# Altium schematic symbol library Diode_Bridge.SchLib: 205 symbols (part 1 of 2)
Pins are listed as number, name and electrical type; pins without a type are passive.

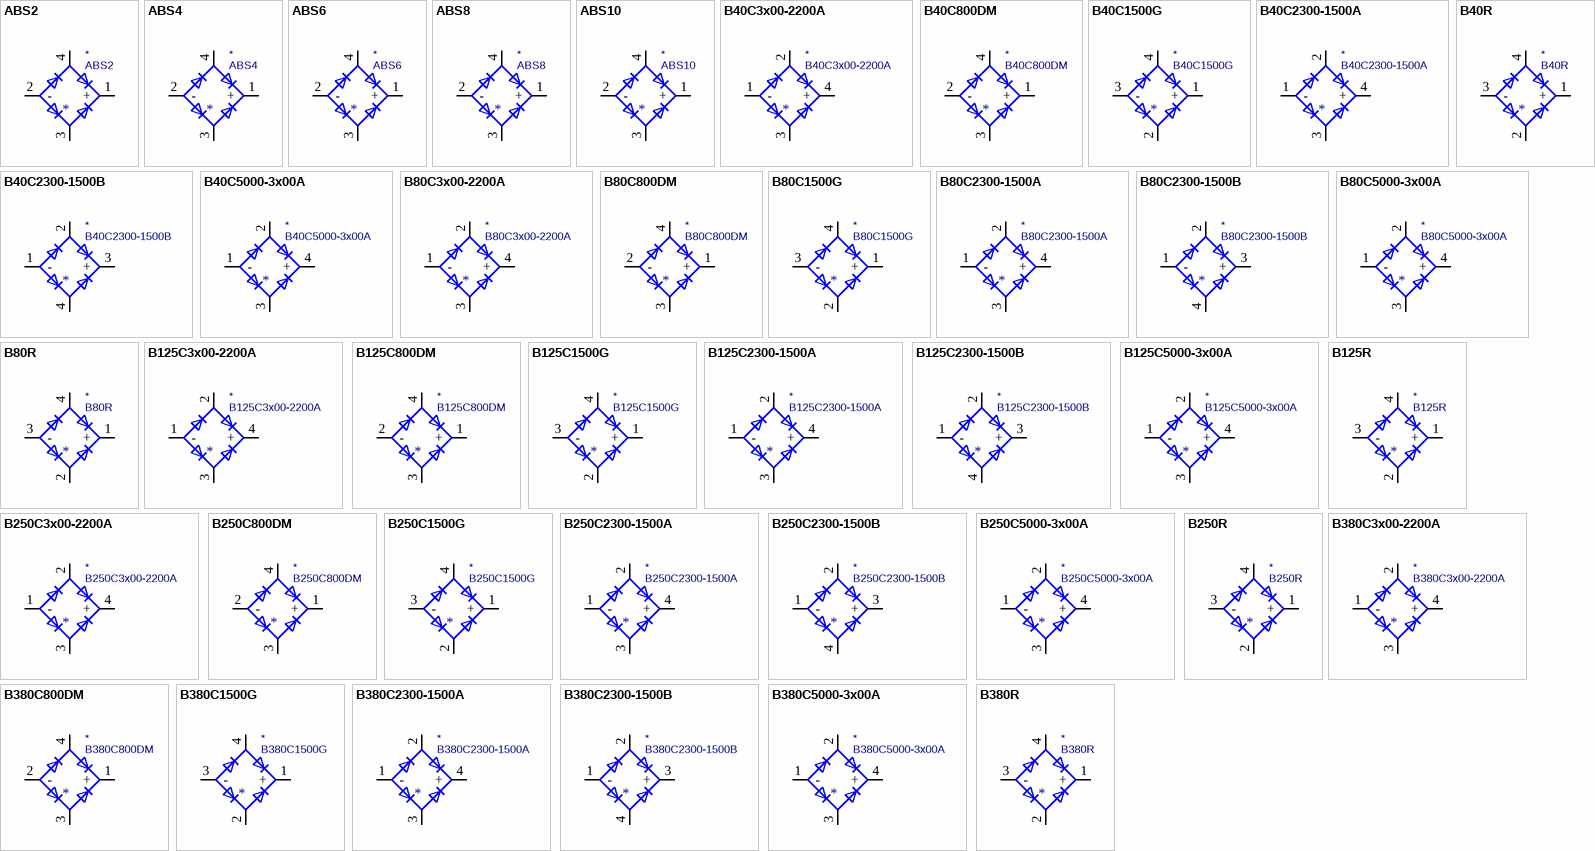
[diagram p0: symbols ABS2 to B380R]

## ABS2
designator *  value ABS2
ki_keywords: rectifier acdc; ki_description: Miniature Glass Passivated Single-Phase Surface Mount Bridge Rectifiers, 140V Vrms, 0.8A If, ABS SMD package; ki_fp_filters: Diode*Bridge*Diotec*ABS*; Footprint: Diode_SMD:Diode_Bridge_Diotec_ABS; Supplier: https://diotec.com/tl_files/diotec/files/pdf/datasheets/abs2.pdf
footprint Diode_Bridge_Diotec_ABS
pins: 1 +, 2 -, 3, 4

## ABS4
designator *  value ABS4
ki_keywords: rectifier acdc; ki_description: Miniature Glass Passivated Single-Phase Surface Mount Bridge Rectifiers, 280V Vrms, 0.8A If, ABS SMD package; ki_fp_filters: Diode*Bridge*Diotec*ABS*; Footprint: Diode_SMD:Diode_Bridge_Diotec_ABS; Supplier: https://diotec.com/tl_files/diotec/files/pdf/datasheets/abs2.pdf
footprint Diode_Bridge_Diotec_ABS
pins: 1 +, 2 -, 3, 4

## ABS6
designator *  value ABS6
ki_keywords: rectifier acdc; ki_description: Miniature Glass Passivated Single-Phase Surface Mount Bridge Rectifiers, 420V Vrms, 0.8A If, ABS SMD package; ki_fp_filters: Diode*Bridge*Diotec*ABS*; Footprint: Diode_SMD:Diode_Bridge_Diotec_ABS; Supplier: https://diotec.com/tl_files/diotec/files/pdf/datasheets/abs2.pdf
footprint Diode_Bridge_Diotec_ABS
pins: 1 +, 2 -, 3, 4

## ABS8
designator *  value ABS8
ki_keywords: rectifier acdc; ki_description: Miniature Glass Passivated Single-Phase Surface Mount Bridge Rectifiers, 450V Vrms, 0.8A If, ABS SMD package; ki_fp_filters: Diode*Bridge*Diotec*ABS*; Footprint: Diode_SMD:Diode_Bridge_Diotec_ABS; Supplier: https://diotec.com/tl_files/diotec/files/pdf/datasheets/abs2.pdf
footprint Diode_Bridge_Diotec_ABS
pins: 1 +, 2 -, 3, 4

## ABS10
designator *  value ABS10
ki_keywords: rectifier acdc; ki_description: Miniature Glass Passivated Single-Phase Surface Mount Bridge Rectifiers, 700V Vrms, 0.8A If, ABS SMD package; ki_fp_filters: Diode*Bridge*Diotec*ABS*; Footprint: Diode_SMD:Diode_Bridge_Diotec_ABS; Supplier: https://diotec.com/tl_files/diotec/files/pdf/datasheets/abs2.pdf
footprint Diode_Bridge_Diotec_ABS
pins: 1 +, 2 -, 3, 4

## B40C3x00-2200A
designator *  value B40C3x00-2200A
ki_keywords: rectifier acdc; ki_description: Silicon Bridge Rectifier, 40V Vrms, 2.2A If, pins=-AA+, SIL-package; ki_fp_filters: D*Bridge*32.0x5.6x17.0mm*P10.0mm*P7.5mm*; Footprint: Diode_THT:Diode_Bridge_32.0x5.6x17.0mm_P10.0mm_P7.5mm; Supplier: https://diotec.com/tl_files/diotec/files/pdf/datasheets/b40c3700
footprint Diode_Bridge_32.0x5.6x17.0mm_P10.0mm_P7.5mm
pins: 1 -, 2, 3, 4 +

## B40C800DM
designator *  value B40C800DM
ki_keywords: rectifier acdc; ki_description: Glass Passivated Single-Phase Bridge Rectifier, 40V Vrms, 0.8A If, DIP-4; ki_fp_filters: Diode*Bridge*DIP*W7.62mm*P5.08mm*; Footprint: Diode_THT:Diode_Bridge_DIP-4_W7.62mm_P5.08mm; Supplier: https://www.vishay.com/docs/88533/800dm.pdf
footprint Diode_Bridge_DIP-4_W7.62mm_P5.08mm
pins: 1 +, 2 -, 3, 4

## B40C1500G
designator *  value B40C1500G
ki_keywords: rectifier acdc; ki_description: Glass Passivated Single-Phase Bridge Rectifier, 40V Vrms, 1.5A If, WOG package; ki_fp_filters: D*Bridge*Round*D9.8mm*; Footprint: Diode_THT:Diode_Bridge_Round_D9.8mm; Supplier: https://www.vishay.com/docs/88501/b40c1500g.pdf
footprint Diode_Bridge_Round_D9.8mm
pins: 1 +, 2, 3 -, 4

## B40C2300-1500A
designator *  value B40C2300-1500A
ki_keywords: rectifier acdc; ki_description: Silicon Bridge Rectifier, 40V Vrms, 1.5A If, pins=-AA+, SIL-package; ki_fp_filters: D*Bridge*19.0x3.5x10.0mm*P5.0mm*; Footprint: Diode_THT:Diode_Bridge_19.0x3.5x10.0mm_P5.0mm; Supplier: https://diotec.com/tl_files/diotec/files/pdf/datasheets/b40c2300.pdf
footprint Diode_Bridge_19.0x3.5x10.0mm_P5.0mm
pins: 1 -, 2, 3, 4 +

## B40C2300-1500B
designator *  value B40C2300-1500B
ki_keywords: rectifier acdc; ki_description: Silicon Bridge Rectifier, 40V Vrms, 1.5A If, pins=-A+A, SIL-package; ki_fp_filters: D*Bridge*19.0x3.5x10.0mm*P5.0mm*; Footprint: Diode_THT:Diode_Bridge_19.0x3.5x10.0mm_P5.0mm; Supplier: https://diotec.com/tl_files/diotec/files/pdf/datasheets/b40c2300.pdf
footprint Diode_Bridge_19.0x3.5x10.0mm_P5.0mm
pins: 1 -, 2, 3 +, 4

## B40C5000-3x00A
designator *  value B40C5000-3x00A
ki_keywords: rectifier acdc; ki_description: Silicon Bridge Rectifier, 40V Vrms, 3.3A If, pins=-AA+, SIL-package; ki_fp_filters: D*Bridge*32.0x5.6x17.0mm*P10.0mm*P7.5mm*; Footprint: Diode_THT:Diode_Bridge_32.0x5.6x17.0mm_P10.0mm_P7.5mm; Supplier: https://diotec.com/tl_files/diotec/files/pdf/datasheets/b40c500033
footprint Diode_Bridge_32.0x5.6x17.0mm_P10.0mm_P7.5mm
pins: 1 -, 2, 3, 4 +

## B40R
designator *  value B40R
ki_keywords: rectifier acdc; ki_description: Single-Phase Bridge Rectifier, 40V Vrms, 1.6A If, WOG-like package; ki_fp_filters: D*Bridge*Round*D9.0mm*; Footprint: Diode_THT:Diode_Bridge_Round_D9.0mm; Supplier: https://diotec.com/tl_files/diotec/files/pdf/datasheets/b40r.pdf
footprint Diode_Bridge_Round_D9.0mm
pins: 1 +, 2, 3 -, 4

## B80C3x00-2200A
designator *  value B80C3x00-2200A
ki_keywords: rectifier acdc; ki_description: Silicon Bridge Rectifier, 80V Vrms, 2.2A If, pins=-AA+, SIL-package; ki_fp_filters: D*Bridge*32.0x5.6x17.0mm*P10.0mm*P7.5mm*; Footprint: Diode_THT:Diode_Bridge_32.0x5.6x17.0mm_P10.0mm_P7.5mm; Supplier: https://diotec.com/tl_files/diotec/files/pdf/datasheets/b40c3700
footprint Diode_Bridge_32.0x5.6x17.0mm_P10.0mm_P7.5mm
pins: 1 -, 2, 3, 4 +

## B80C800DM
designator *  value B80C800DM
ki_keywords: rectifier acdc; ki_description: Glass Passivated Single-Phase Bridge Rectifier, 80V Vrms, 0.8A If, DIP-4; ki_fp_filters: Diode*Bridge*DIP*W7.62mm*P5.08mm*; Footprint: Diode_THT:Diode_Bridge_DIP-4_W7.62mm_P5.08mm; Supplier: https://www.vishay.com/docs/88533/800dm.pdf
footprint Diode_Bridge_DIP-4_W7.62mm_P5.08mm
pins: 1 +, 2 -, 3, 4

## B80C1500G
designator *  value B80C1500G
ki_keywords: rectifier acdc; ki_description: Glass Passivated Single-Phase Bridge Rectifier, 80V Vrms, 1.5A If, WOG package; ki_fp_filters: D*Bridge*Round*D9.8mm*; Footprint: Diode_THT:Diode_Bridge_Round_D9.8mm; Supplier: https://www.vishay.com/docs/88501/b40c1500g.pdf
footprint Diode_Bridge_Round_D9.8mm
pins: 1 +, 2, 3 -, 4

## B80C2300-1500A
designator *  value B80C2300-1500A
ki_keywords: rectifier acdc; ki_description: Silicon Bridge Rectifier, 80V Vrms, 1.5A If, pins=-AA+, SIL-package; ki_fp_filters: D*Bridge*19.0x3.5x10.0mm*P5.0mm*; Footprint: Diode_THT:Diode_Bridge_19.0x3.5x10.0mm_P5.0mm; Supplier: https://diotec.com/tl_files/diotec/files/pdf/datasheets/b40c2300.pdf
footprint Diode_Bridge_19.0x3.5x10.0mm_P5.0mm
pins: 1 -, 2, 3, 4 +

## B80C2300-1500B
designator *  value B80C2300-1500B
ki_keywords: rectifier acdc; ki_description: Silicon Bridge Rectifier, 80V Vrms, 1.5A If, pins=-A+A, SIL-package; ki_fp_filters: D*Bridge*19.0x3.5x10.0mm*P5.0mm*; Footprint: Diode_THT:Diode_Bridge_19.0x3.5x10.0mm_P5.0mm; Supplier: https://diotec.com/tl_files/diotec/files/pdf/datasheets/b40c2300.pdf
footprint Diode_Bridge_19.0x3.5x10.0mm_P5.0mm
pins: 1 -, 2, 3 +, 4

## B80C5000-3x00A
designator *  value B80C5000-3x00A
ki_keywords: rectifier acdc; ki_description: Silicon Bridge Rectifier, 80V Vrms, 3.3A If, pins=-AA+, SIL-package; ki_fp_filters: D*Bridge*32.0x5.6x17.0mm*P10.0mm*P7.5mm*; Footprint: Diode_THT:Diode_Bridge_32.0x5.6x17.0mm_P10.0mm_P7.5mm; Supplier: https://diotec.com/tl_files/diotec/files/pdf/datasheets/b40c500033
footprint Diode_Bridge_32.0x5.6x17.0mm_P10.0mm_P7.5mm
pins: 1 -, 2, 3, 4 +

## B80R
designator *  value B80R
ki_keywords: rectifier acdc; ki_description: Single-Phase Bridge Rectifier, 80V Vrms, 1.6A If, WOG-like package; ki_fp_filters: D*Bridge*Round*D9.0mm*; Footprint: Diode_THT:Diode_Bridge_Round_D9.0mm; Supplier: https://diotec.com/tl_files/diotec/files/pdf/datasheets/b40r.pdf
footprint Diode_Bridge_Round_D9.0mm
pins: 1 +, 2, 3 -, 4

## B125C3x00-2200A
designator *  value B125C3x00-2200A
ki_keywords: rectifier acdc; ki_description: Silicon Bridge Rectifier, 125V Vrms, 2.2A If, pins=-AA+, SIL-package; ki_fp_filters: D*Bridge*32.0x5.6x17.0mm*P10.0mm*P7.5mm*; Footprint: Diode_THT:Diode_Bridge_32.0x5.6x17.0mm_P10.0mm_P7.5mm; Supplier: https://diotec.com/tl_files/diotec/files/pdf/datasheets/b40c3700
footprint Diode_Bridge_32.0x5.6x17.0mm_P10.0mm_P7.5mm
pins: 1 -, 2, 3, 4 +

## B125C800DM
designator *  value B125C800DM
ki_keywords: rectifier acdc; ki_description: Glass Passivated Single-Phase Bridge Rectifier, 125V Vrms, 0.8A If, DIP-4; ki_fp_filters: Diode*Bridge*DIP*W7.62mm*P5.08mm*; Footprint: Diode_THT:Diode_Bridge_DIP-4_W7.62mm_P5.08mm; Supplier: https://www.vishay.com/docs/88533/800dm.pdf
footprint Diode_Bridge_DIP-4_W7.62mm_P5.08mm
pins: 1 +, 2 -, 3, 4

## B125C1500G
designator *  value B125C1500G
ki_keywords: rectifier acdc; ki_description: Glass Passivated Single-Phase Bridge Rectifier, 125V Vrms, 1.5A If, WOG package; ki_fp_filters: D*Bridge*Round*D9.8mm*; Footprint: Diode_THT:Diode_Bridge_Round_D9.8mm; Supplier: https://www.vishay.com/docs/88501/b40c1500g.pdf
footprint Diode_Bridge_Round_D9.8mm
pins: 1 +, 2, 3 -, 4

## B125C2300-1500A
designator *  value B125C2300-1500A
ki_keywords: rectifier acdc; ki_description: Silicon Bridge Rectifier, 125V Vrms, 1.5A If, pins=-AA+, SIL-package; ki_fp_filters: D*Bridge*19.0x3.5x10.0mm*P5.0mm*; Footprint: Diode_THT:Diode_Bridge_19.0x3.5x10.0mm_P5.0mm; Supplier: https://diotec.com/tl_files/diotec/files/pdf/datasheets/b40c2300.pdf
footprint Diode_Bridge_19.0x3.5x10.0mm_P5.0mm
pins: 1 -, 2, 3, 4 +

## B125C2300-1500B
designator *  value B125C2300-1500B
ki_keywords: rectifier acdc; ki_description: Silicon Bridge Rectifier, 125V Vrms, 1.5A If, pins=-A+A, SIL-package; ki_fp_filters: D*Bridge*19.0x3.5x10.0mm*P5.0mm*; Footprint: Diode_THT:Diode_Bridge_19.0x3.5x10.0mm_P5.0mm; Supplier: https://diotec.com/tl_files/diotec/files/pdf/datasheets/b40c2300.pdf
footprint Diode_Bridge_19.0x3.5x10.0mm_P5.0mm
pins: 1 -, 2, 3 +, 4

## B125C5000-3x00A
designator *  value B125C5000-3x00A
ki_keywords: rectifier acdc; ki_description: Silicon Bridge Rectifier, 125V Vrms, 3.3A If, pins=-AA+, SIL-package; ki_fp_filters: D*Bridge*32.0x5.6x17.0mm*P10.0mm*P7.5mm*; Footprint: Diode_THT:Diode_Bridge_32.0x5.6x17.0mm_P10.0mm_P7.5mm; Supplier: https://diotec.com/tl_files/diotec/files/pdf/datasheets/b40c500033
footprint Diode_Bridge_32.0x5.6x17.0mm_P10.0mm_P7.5mm
pins: 1 -, 2, 3, 4 +

## B125R
designator *  value B125R
ki_keywords: rectifier acdc; ki_description: Single-Phase Bridge Rectifier, 125V Vrms, 1.6A If, WOG-like package; ki_fp_filters: D*Bridge*Round*D9.0mm*; Footprint: Diode_THT:Diode_Bridge_Round_D9.0mm; Supplier: https://diotec.com/tl_files/diotec/files/pdf/datasheets/b40r.pdf
footprint Diode_Bridge_Round_D9.0mm
pins: 1 +, 2, 3 -, 4

## B250C3x00-2200A
designator *  value B250C3x00-2200A
ki_keywords: rectifier acdc; ki_description: Silicon Bridge Rectifier, 250V Vrms, 2.2A If, pins=-AA+, SIL-package; ki_fp_filters: D*Bridge*32.0x5.6x17.0mm*P10.0mm*P7.5mm*; Footprint: Diode_THT:Diode_Bridge_32.0x5.6x17.0mm_P10.0mm_P7.5mm; Supplier: https://diotec.com/tl_files/diotec/files/pdf/datasheets/b40c3700
footprint Diode_Bridge_32.0x5.6x17.0mm_P10.0mm_P7.5mm
pins: 1 -, 2, 3, 4 +

## B250C800DM
designator *  value B250C800DM
ki_keywords: rectifier acdc; ki_description: Glass Passivated Single-Phase Bridge Rectifier, 250V Vrms, 0.8A If, DIP-4; ki_fp_filters: Diode*Bridge*DIP*W7.62mm*P5.08mm*; Footprint: Diode_THT:Diode_Bridge_DIP-4_W7.62mm_P5.08mm; Supplier: https://www.vishay.com/docs/88533/800dm.pdf
footprint Diode_Bridge_DIP-4_W7.62mm_P5.08mm
pins: 1 +, 2 -, 3, 4

## B250C1500G
designator *  value B250C1500G
ki_keywords: rectifier acdc; ki_description: Glass Passivated Single-Phase Bridge Rectifier, 250V Vrms, 1.5A If, WOG package; ki_fp_filters: D*Bridge*Round*D9.8mm*; Footprint: Diode_THT:Diode_Bridge_Round_D9.8mm; Supplier: https://www.vishay.com/docs/88501/b40c1500g.pdf
footprint Diode_Bridge_Round_D9.8mm
pins: 1 +, 2, 3 -, 4

## B250C2300-1500A
designator *  value B250C2300-1500A
ki_keywords: rectifier acdc; ki_description: Silicon Bridge Rectifier, 250V Vrms, 1.5A If, pins=-AA+, SIL-package; ki_fp_filters: D*Bridge*19.0x3.5x10.0mm*P5.0mm*; Footprint: Diode_THT:Diode_Bridge_19.0x3.5x10.0mm_P5.0mm; Supplier: https://diotec.com/tl_files/diotec/files/pdf/datasheets/b40c2300.pdf
footprint Diode_Bridge_19.0x3.5x10.0mm_P5.0mm
pins: 1 -, 2, 3, 4 +

## B250C2300-1500B
designator *  value B250C2300-1500B
ki_keywords: rectifier acdc; ki_description: Silicon Bridge Rectifier, 250V Vrms, 1.5A If, pins=-A+A, SIL-package; ki_fp_filters: D*Bridge*19.0x3.5x10.0mm*P5.0mm*; Footprint: Diode_THT:Diode_Bridge_19.0x3.5x10.0mm_P5.0mm; Supplier: https://diotec.com/tl_files/diotec/files/pdf/datasheets/b40c2300.pdf
footprint Diode_Bridge_19.0x3.5x10.0mm_P5.0mm
pins: 1 -, 2, 3 +, 4

## B250C5000-3x00A
designator *  value B250C5000-3x00A
ki_keywords: rectifier acdc; ki_description: Silicon Bridge Rectifier, 250V Vrms, 3.3A If, pins=-AA+, SIL-package; ki_fp_filters: D*Bridge*32.0x5.6x17.0mm*P10.0mm*P7.5mm*; Footprint: Diode_THT:Diode_Bridge_32.0x5.6x17.0mm_P10.0mm_P7.5mm; Supplier: https://diotec.com/tl_files/diotec/files/pdf/datasheets/b40c500033
footprint Diode_Bridge_32.0x5.6x17.0mm_P10.0mm_P7.5mm
pins: 1 -, 2, 3, 4 +

## B250R
designator *  value B250R
ki_keywords: rectifier acdc; ki_description: Single-Phase Bridge Rectifier, 250V Vrms, 1.6A If, WOG-like package; ki_fp_filters: D*Bridge*Round*D9.0mm*; Footprint: Diode_THT:Diode_Bridge_Round_D9.0mm; Supplier: https://diotec.com/tl_files/diotec/files/pdf/datasheets/b40r.pdf
footprint Diode_Bridge_Round_D9.0mm
pins: 1 +, 2, 3 -, 4

## B380C3x00-2200A
designator *  value B380C3x00-2200A
ki_keywords: rectifier acdc; ki_description: Silicon Bridge Rectifier, 380V Vrms, 2.2A If, pins=-AA+, SIL-package; ki_fp_filters: D*Bridge*32.0x5.6x17.0mm*P10.0mm*P7.5mm*; Footprint: Diode_THT:Diode_Bridge_32.0x5.6x17.0mm_P10.0mm_P7.5mm; Supplier: https://diotec.com/tl_files/diotec/files/pdf/datasheets/b40c3700
footprint Diode_Bridge_32.0x5.6x17.0mm_P10.0mm_P7.5mm
pins: 1 -, 2, 3, 4 +

## B380C800DM
designator *  value B380C800DM
ki_keywords: rectifier acdc; ki_description: Glass Passivated Single-Phase Bridge Rectifier, 380V Vrms, 0.8A If, DIP-4; ki_fp_filters: Diode*Bridge*DIP*W7.62mm*P5.08mm*; Footprint: Diode_THT:Diode_Bridge_DIP-4_W7.62mm_P5.08mm; Supplier: https://www.vishay.com/docs/88533/800dm.pdf
footprint Diode_Bridge_DIP-4_W7.62mm_P5.08mm
pins: 1 +, 2 -, 3, 4

## B380C1500G
designator *  value B380C1500G
ki_keywords: rectifier acdc; ki_description: Glass Passivated Single-Phase Bridge Rectifier, 380V Vrms, 1.5A If, WOG package; ki_fp_filters: D*Bridge*Round*D9.8mm*; Footprint: Diode_THT:Diode_Bridge_Round_D9.8mm; Supplier: https://www.vishay.com/docs/88501/b40c1500g.pdf
footprint Diode_Bridge_Round_D9.8mm
pins: 1 +, 2, 3 -, 4

## B380C2300-1500A
designator *  value B380C2300-1500A
ki_keywords: rectifier acdc; ki_description: Silicon Bridge Rectifier, 380V Vrms, 1.5A If, pins=-AA+, SIL-package; ki_fp_filters: D*Bridge*19.0x3.5x10.0mm*P5.0mm*; Footprint: Diode_THT:Diode_Bridge_19.0x3.5x10.0mm_P5.0mm; Supplier: https://diotec.com/tl_files/diotec/files/pdf/datasheets/b40c2300.pdf
footprint Diode_Bridge_19.0x3.5x10.0mm_P5.0mm
pins: 1 -, 2, 3, 4 +

## B380C2300-1500B
designator *  value B380C2300-1500B
ki_keywords: rectifier acdc; ki_description: Silicon Bridge Rectifier, 380V Vrms, 1.5A If, pins=-A+A, SIL-package; ki_fp_filters: D*Bridge*19.0x3.5x10.0mm*P5.0mm*; Footprint: Diode_THT:Diode_Bridge_19.0x3.5x10.0mm_P5.0mm; Supplier: https://diotec.com/tl_files/diotec/files/pdf/datasheets/b40c2300.pdf
footprint Diode_Bridge_19.0x3.5x10.0mm_P5.0mm
pins: 1 -, 2, 3 +, 4

## B380C5000-3x00A
designator *  value B380C5000-3x00A
ki_keywords: rectifier acdc; ki_description: Silicon Bridge Rectifier, 380V Vrms, 3.3A If, pins=-AA+, SIL-package; ki_fp_filters: D*Bridge*32.0x5.6x17.0mm*P10.0mm*P7.5mm*; Footprint: Diode_THT:Diode_Bridge_32.0x5.6x17.0mm_P10.0mm_P7.5mm; Supplier: https://diotec.com/tl_files/diotec/files/pdf/datasheets/b40c500033
footprint Diode_Bridge_32.0x5.6x17.0mm_P10.0mm_P7.5mm
pins: 1 -, 2, 3, 4 +

## B380R
designator *  value B380R
ki_keywords: rectifier acdc; ki_description: Single-Phase Bridge Rectifier, 380V Vrms, 1.6A If, WOG-like package; ki_fp_filters: D*Bridge*Round*D9.0mm*; Footprint: Diode_THT:Diode_Bridge_Round_D9.0mm; Supplier: https://diotec.com/tl_files/diotec/files/pdf/datasheets/b40r.pdf
footprint Diode_Bridge_Round_D9.0mm
pins: 1 +, 2, 3 -, 4

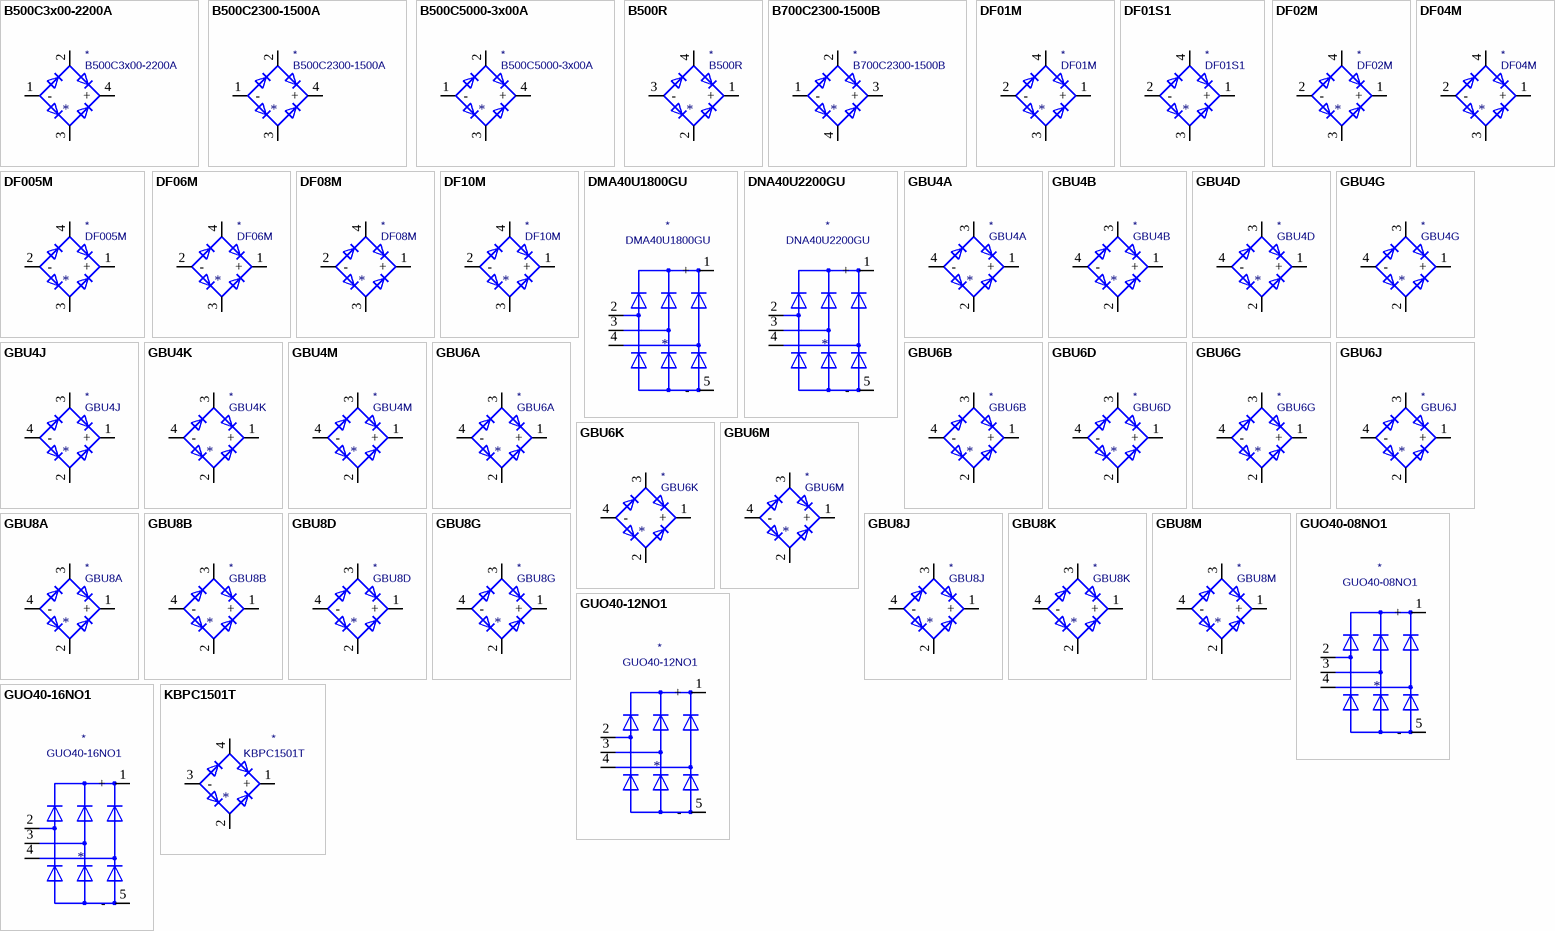
[diagram p1: symbols B500C3x00-2200A to KBPC1501T]

## B500C3x00-2200A
designator *  value B500C3x00-2200A
ki_keywords: rectifier acdc; ki_description: Silicon Bridge Rectifier, 500V Vrms, 2.2A If, pins=-AA+, SIL-package; ki_fp_filters: D*Bridge*32.0x5.6x17.0mm*P10.0mm*P7.5mm*; Footprint: Diode_THT:Diode_Bridge_32.0x5.6x17.0mm_P10.0mm_P7.5mm; Supplier: https://diotec.com/tl_files/diotec/files/pdf/datasheets/b40c3700
footprint Diode_Bridge_32.0x5.6x17.0mm_P10.0mm_P7.5mm
pins: 1 -, 2, 3, 4 +

## B500C2300-1500A
designator *  value B500C2300-1500A
ki_keywords: rectifier acdc; ki_description: Silicon Bridge Rectifier, 500V Vrms, 1.5A If, pins=-AA+, SIL-package; ki_fp_filters: D*Bridge*19.0x3.5x10.0mm*P5.0mm*; Footprint: Diode_THT:Diode_Bridge_19.0x3.5x10.0mm_P5.0mm; Supplier: https://diotec.com/tl_files/diotec/files/pdf/datasheets/b40c2300.pdf
footprint Diode_Bridge_19.0x3.5x10.0mm_P5.0mm
pins: 1 -, 2, 3, 4 +

## B500C5000-3x00A
designator *  value B500C5000-3x00A
ki_keywords: rectifier acdc; ki_description: Silicon Bridge Rectifier, 500V Vrms, 3.3A If, pins=-AA+, SIL-package; ki_fp_filters: D*Bridge*32.0x5.6x17.0mm*P10.0mm*P7.5mm*; Footprint: Diode_THT:Diode_Bridge_32.0x5.6x17.0mm_P10.0mm_P7.5mm; Supplier: https://diotec.com/tl_files/diotec/files/pdf/datasheets/b40c500033
footprint Diode_Bridge_32.0x5.6x17.0mm_P10.0mm_P7.5mm
pins: 1 -, 2, 3, 4 +

## B500R
designator *  value B500R
ki_keywords: rectifier acdc; ki_description: Single-Phase Bridge Rectifier, 500V Vrms, 1.6A If, WOG-like package; ki_fp_filters: D*Bridge*Round*D9.0mm*; Footprint: Diode_THT:Diode_Bridge_Round_D9.0mm; Supplier: https://diotec.com/tl_files/diotec/files/pdf/datasheets/b40r.pdf
footprint Diode_Bridge_Round_D9.0mm
pins: 1 +, 2, 3 -, 4

## B700C2300-1500B
designator *  value B700C2300-1500B
ki_keywords: rectifier acdc; ki_description: Silicon Bridge Rectifier, 500V Vrms, 1.5A If, pins=-A+A, SIL-package; ki_fp_filters: D*Bridge*19.0x3.5x10.0mm*P5.0mm*; Footprint: Diode_THT:Diode_Bridge_19.0x3.5x10.0mm_P5.0mm; Supplier: https://diotec.com/tl_files/diotec/files/pdf/datasheets/b40c2300.pdf
footprint Diode_Bridge_19.0x3.5x10.0mm_P5.0mm
pins: 1 -, 2, 3 +, 4

## DF01M
designator *  value DF01M
ki_keywords: rectifier acdc; ki_description: Miniature Glass Passivated Single-Phase Bridge Rectifiers, 70V Vrms, 1.0A If, DIP-4; ki_fp_filters: Diode*Bridge*DIP*W7.62mm*P5.08mm*; Footprint: Diode_THT:Diode_Bridge_DIP-4_W7.62mm_P5.08mm; Supplier: http://www.vishay.com/docs/88571/dfm.pdf
footprint Diode_Bridge_DIP-4_W7.62mm_P5.08mm
pins: 1 +, 2 -, 3, 4

## DF01S1
designator *  value DF01S1
ki_keywords: rectifier acdc; ki_description: Bridge Rectifier, 70V Vrms, 1.0A If, SMDIP-4; ki_fp_filters: Diode*Bridge*OnSemi*SDIP*4L*; Footprint: Diode_SMD:Diode_Bridge_OnSemi_SDIP-4L; Supplier: https://www.onsemi.com/pdf/datasheet/df10s1-d.pdf
footprint Diode_Bridge_OnSemi_SDIP-4L
pins: 1 +, 2 -, 3, 4

## DF02M
designator *  value DF02M
ki_keywords: rectifier acdc; ki_description: Miniature Glass Passivated Single-Phase Bridge Rectifiers, 140V Vrms, 1.0A If, DIP-4; ki_fp_filters: Diode*Bridge*DIP*W7.62mm*P5.08mm*; Footprint: Diode_THT:Diode_Bridge_DIP-4_W7.62mm_P5.08mm; Supplier: http://www.vishay.com/docs/88571/dfm.pdf
footprint Diode_Bridge_DIP-4_W7.62mm_P5.08mm
pins: 1 +, 2 -, 3, 4

## DF04M
designator *  value DF04M
ki_keywords: rectifier acdc; ki_description: Miniature Glass Passivated Single-Phase Bridge Rectifiers, 280V Vrms, 1.0A If, DIP-4; ki_fp_filters: Diode*Bridge*DIP*W7.62mm*P5.08mm*; Footprint: Diode_THT:Diode_Bridge_DIP-4_W7.62mm_P5.08mm; Supplier: http://www.vishay.com/docs/88571/dfm.pdf
footprint Diode_Bridge_DIP-4_W7.62mm_P5.08mm
pins: 1 +, 2 -, 3, 4

## DF005M
designator *  value DF005M
ki_keywords: rectifier acdc; ki_description: Miniature Glass Passivated Single-Phase Bridge Rectifiers, 35V Vrms, 1.0A If, DIP-4; ki_fp_filters: Diode*Bridge*DIP*W7.62mm*P5.08mm*; Footprint: Diode_THT:Diode_Bridge_DIP-4_W7.62mm_P5.08mm; Supplier: http://www.vishay.com/docs/88571/dfm.pdf
footprint Diode_Bridge_DIP-4_W7.62mm_P5.08mm
pins: 1 +, 2 -, 3, 4

## DF06M
designator *  value DF06M
ki_keywords: rectifier acdc; ki_description: Miniature Glass Passivated Single-Phase Bridge Rectifiers, 420V Vrms, 1.0A If, DIP-4; ki_fp_filters: Diode*Bridge*DIP*W7.62mm*P5.08mm*; Footprint: Diode_THT:Diode_Bridge_DIP-4_W7.62mm_P5.08mm; Supplier: http://www.vishay.com/docs/88571/dfm.pdf
footprint Diode_Bridge_DIP-4_W7.62mm_P5.08mm
pins: 1 +, 2 -, 3, 4

## DF08M
designator *  value DF08M
ki_keywords: rectifier acdc; ki_description: Miniature Glass Passivated Single-Phase Bridge Rectifiers, 560V Vrms, 1.0A If, DIP-4; ki_fp_filters: Diode*Bridge*DIP*W7.62mm*P5.08mm*; Footprint: Diode_THT:Diode_Bridge_DIP-4_W7.62mm_P5.08mm; Supplier: http://www.vishay.com/docs/88571/dfm.pdf
footprint Diode_Bridge_DIP-4_W7.62mm_P5.08mm
pins: 1 +, 2 -, 3, 4

## DF10M
designator *  value DF10M
ki_keywords: rectifier acdc; ki_description: Miniature Glass Passivated Single-Phase Bridge Rectifiers, 700V Vrms, 1.0A If, DIP-4; ki_fp_filters: Diode*Bridge*DIP*W7.62mm*P5.08mm*; Footprint: Diode_THT:Diode_Bridge_DIP-4_W7.62mm_P5.08mm; Supplier: http://www.vishay.com/docs/88571/dfm.pdf
footprint Diode_Bridge_DIP-4_W7.62mm_P5.08mm
pins: 1 +, 2 -, 3, 4

## DMA40U1800GU
designator *  value DMA40U1800GU
ki_keywords: Three-Phase Bridge Rectifier; ki_description: 575V Vrms, 40A If, GUFP(X025B); ki_fp_filters: Diode*Bridge*IXYS*GUFP*; Footprint: Diode_THT:Diode_Bridge_IXYS_GUFP; Supplier: https://ixapps.ixys.com/Datasheet/DMA40U1800GU.pdf
footprint Diode_Bridge_IXYS_GUFP
pins: 1 +, 2, 3, 4, 5 -

## DNA40U2200GU
designator *  value DNA40U2200GU
ki_keywords: Three-Phase Bridge Rectifier; ki_description: 690V Vrms, 40A If, GUFP(X025B); ki_fp_filters: Diode*Bridge*IXYS*GUFP*; Footprint: Diode_THT:Diode_Bridge_IXYS_GUFP; Supplier: https://ixapps.ixys.com/Datasheet/DNA40U2200GU.pdf
footprint Diode_Bridge_IXYS_GUFP
pins: 1 +, 2, 3, 4, 5 -

## GBU4A
designator *  value GBU4A
ki_keywords: rectifier acdc; ki_description: Single-Phase Bridge Rectifier, 35V Vrms, 4.0A If, GBU package; ki_fp_filters: Diode*Bridge*Vishay*GBU*; Footprint: Diode_THT:Diode_Bridge_Vishay_GBU; Supplier: http://www.vishay.com/docs/88656/gbu4a.pdf
footprint Diode_Bridge_Vishay_GBU
pins: 1 +, 2, 3, 4 -

## GBU4B
designator *  value GBU4B
ki_keywords: rectifier acdc; ki_description: Single-Phase Bridge Rectifier, 70V Vrms, 4.0A If, GBU package; ki_fp_filters: Diode*Bridge*Vishay*GBU*; Footprint: Diode_THT:Diode_Bridge_Vishay_GBU; Supplier: http://www.vishay.com/docs/88656/gbu4a.pdf
footprint Diode_Bridge_Vishay_GBU
pins: 1 +, 2, 3, 4 -

## GBU4D
designator *  value GBU4D
ki_keywords: rectifier acdc; ki_description: Single-Phase Bridge Rectifier, 140V Vrms, 4.0A If, GBU package; ki_fp_filters: Diode*Bridge*Vishay*GBU*; Footprint: Diode_THT:Diode_Bridge_Vishay_GBU; Supplier: http://www.vishay.com/docs/88656/gbu4a.pdf
footprint Diode_Bridge_Vishay_GBU
pins: 1 +, 2, 3, 4 -

## GBU4G
designator *  value GBU4G
ki_keywords: rectifier acdc; ki_description: Single-Phase Bridge Rectifier, 280V Vrms, 4.0A If, GBU package; ki_fp_filters: Diode*Bridge*Vishay*GBU*; Footprint: Diode_THT:Diode_Bridge_Vishay_GBU; Supplier: http://www.vishay.com/docs/88656/gbu4a.pdf
footprint Diode_Bridge_Vishay_GBU
pins: 1 +, 2, 3, 4 -

## GBU4J
designator *  value GBU4J
ki_keywords: rectifier acdc; ki_description: Single-Phase Bridge Rectifier, 420V Vrms, 4.0A If, GBU package; ki_fp_filters: Diode*Bridge*Vishay*GBU*; Footprint: Diode_THT:Diode_Bridge_Vishay_GBU; Supplier: http://www.vishay.com/docs/88656/gbu4a.pdf
footprint Diode_Bridge_Vishay_GBU
pins: 1 +, 2, 3, 4 -

## GBU4K
designator *  value GBU4K
ki_keywords: rectifier acdc; ki_description: Single-Phase Bridge Rectifier, 560V Vrms, 4.0A If, GBU package; ki_fp_filters: Diode*Bridge*Vishay*GBU*; Footprint: Diode_THT:Diode_Bridge_Vishay_GBU; Supplier: http://www.vishay.com/docs/88656/gbu4a.pdf
footprint Diode_Bridge_Vishay_GBU
pins: 1 +, 2, 3, 4 -

## GBU4M
designator *  value GBU4M
ki_keywords: rectifier acdc; ki_description: Single-Phase Bridge Rectifier, 700V Vrms, 4.0A If, GBU package; ki_fp_filters: Diode*Bridge*Vishay*GBU*; Footprint: Diode_THT:Diode_Bridge_Vishay_GBU; Supplier: http://www.vishay.com/docs/88656/gbu4a.pdf
footprint Diode_Bridge_Vishay_GBU
pins: 1 +, 2, 3, 4 -

## GBU6A
designator *  value GBU6A
ki_keywords: rectifier acdc; ki_description: Single-Phase Bridge Rectifier, 35V Vrms, 6.0A If, GBU package; ki_fp_filters: Diode*Bridge*Vishay*GBU*; Footprint: Diode_THT:Diode_Bridge_Vishay_GBU; Supplier: http://www.vishay.com/docs/88656/gbu6a.pdf
footprint Diode_Bridge_Vishay_GBU
pins: 1 +, 2, 3, 4 -

## GBU6B
designator *  value GBU6B
ki_keywords: rectifier acdc; ki_description: Single-Phase Bridge Rectifier, 70V Vrms, 6.0A If, GBU package; ki_fp_filters: Diode*Bridge*Vishay*GBU*; Footprint: Diode_THT:Diode_Bridge_Vishay_GBU; Supplier: http://www.vishay.com/docs/88656/gbu6a.pdf
footprint Diode_Bridge_Vishay_GBU
pins: 1 +, 2, 3, 4 -

## GBU6D
designator *  value GBU6D
ki_keywords: rectifier acdc; ki_description: Single-Phase Bridge Rectifier, 140V Vrms, 6.0A If, GBU package; ki_fp_filters: Diode*Bridge*Vishay*GBU*; Footprint: Diode_THT:Diode_Bridge_Vishay_GBU; Supplier: http://www.vishay.com/docs/88656/gbu6a.pdf
footprint Diode_Bridge_Vishay_GBU
pins: 1 +, 2, 3, 4 -

## GBU6G
designator *  value GBU6G
ki_keywords: rectifier acdc; ki_description: Single-Phase Bridge Rectifier, 280V Vrms, 6.0A If, GBU package; ki_fp_filters: Diode*Bridge*Vishay*GBU*; Footprint: Diode_THT:Diode_Bridge_Vishay_GBU; Supplier: http://www.vishay.com/docs/88656/gbu6a.pdf
footprint Diode_Bridge_Vishay_GBU
pins: 1 +, 2, 3, 4 -

## GBU6J
designator *  value GBU6J
ki_keywords: rectifier acdc; ki_description: Single-Phase Bridge Rectifier, 420V Vrms, 6.0A If, GBU package; ki_fp_filters: Diode*Bridge*Vishay*GBU*; Footprint: Diode_THT:Diode_Bridge_Vishay_GBU; Supplier: http://www.vishay.com/docs/88656/gbu6a.pdf
footprint Diode_Bridge_Vishay_GBU
pins: 1 +, 2, 3, 4 -

## GBU6K
designator *  value GBU6K
ki_keywords: rectifier acdc; ki_description: Single-Phase Bridge Rectifier, 560V Vrms, 6.0A If, GBU package; ki_fp_filters: Diode*Bridge*Vishay*GBU*; Footprint: Diode_THT:Diode_Bridge_Vishay_GBU; Supplier: http://www.vishay.com/docs/88656/gbu6a.pdf
footprint Diode_Bridge_Vishay_GBU
pins: 1 +, 2, 3, 4 -

## GBU6M
designator *  value GBU6M
ki_keywords: rectifier acdc; ki_description: Single-Phase Bridge Rectifier, 700V Vrms, 6.0A If, GBU package; ki_fp_filters: Diode*Bridge*Vishay*GBU*; Footprint: Diode_THT:Diode_Bridge_Vishay_GBU; Supplier: http://www.vishay.com/docs/88656/gbu6a.pdf
footprint Diode_Bridge_Vishay_GBU
pins: 1 +, 2, 3, 4 -

## GBU8A
designator *  value GBU8A
ki_keywords: rectifier acdc; ki_description: Single-Phase Bridge Rectifier, 35V Vrms, 8.0A If, GBU package; ki_fp_filters: Diode*Bridge*Vishay*GBU*; Footprint: Diode_THT:Diode_Bridge_Vishay_GBU; Supplier: http://www.vishay.com/docs/88656/gbu8a.pdf
footprint Diode_Bridge_Vishay_GBU
pins: 1 +, 2, 3, 4 -

## GBU8B
designator *  value GBU8B
ki_keywords: rectifier acdc; ki_description: Single-Phase Bridge Rectifier, 70V Vrms, 8.0A If, GBU package; ki_fp_filters: Diode*Bridge*Vishay*GBU*; Footprint: Diode_THT:Diode_Bridge_Vishay_GBU; Supplier: http://www.vishay.com/docs/88656/gbu8a.pdf
footprint Diode_Bridge_Vishay_GBU
pins: 1 +, 2, 3, 4 -

## GBU8D
designator *  value GBU8D
ki_keywords: rectifier acdc; ki_description: Single-Phase Bridge Rectifier, 140V Vrms, 8.0A If, GBU package; ki_fp_filters: Diode*Bridge*Vishay*GBU*; Footprint: Diode_THT:Diode_Bridge_Vishay_GBU; Supplier: http://www.vishay.com/docs/88656/gbu8a.pdf
footprint Diode_Bridge_Vishay_GBU
pins: 1 +, 2, 3, 4 -

## GBU8G
designator *  value GBU8G
ki_keywords: rectifier acdc; ki_description: Single-Phase Bridge Rectifier, 280V Vrms, 8.0A If, GBU package; ki_fp_filters: Diode*Bridge*Vishay*GBU*; Footprint: Diode_THT:Diode_Bridge_Vishay_GBU; Supplier: http://www.vishay.com/docs/88656/gbu8a.pdf
footprint Diode_Bridge_Vishay_GBU
pins: 1 +, 2, 3, 4 -

## GBU8J
designator *  value GBU8J
ki_keywords: rectifier acdc; ki_description: Single-Phase Bridge Rectifier, 420V Vrms, 8.0A If, GBU package; ki_fp_filters: Diode*Bridge*Vishay*GBU*; Footprint: Diode_THT:Diode_Bridge_Vishay_GBU; Supplier: http://www.vishay.com/docs/88656/gbu8a.pdf
footprint Diode_Bridge_Vishay_GBU
pins: 1 +, 2, 3, 4 -

## GBU8K
designator *  value GBU8K
ki_keywords: rectifier acdc; ki_description: Single-Phase Bridge Rectifier, 560V Vrms, 8.0A If, GBU package; ki_fp_filters: Diode*Bridge*Vishay*GBU*; Footprint: Diode_THT:Diode_Bridge_Vishay_GBU; Supplier: http://www.vishay.com/docs/88656/gbu8a.pdf
footprint Diode_Bridge_Vishay_GBU
pins: 1 +, 2, 3, 4 -

## GBU8M
designator *  value GBU8M
ki_keywords: rectifier acdc; ki_description: Single-Phase Bridge Rectifier, 700V Vrms, 8.0A If, GBU package; ki_fp_filters: Diode*Bridge*Vishay*GBU*; Footprint: Diode_THT:Diode_Bridge_Vishay_GBU; Supplier: http://www.vishay.com/docs/88656/gbu8a.pdf
footprint Diode_Bridge_Vishay_GBU
pins: 1 +, 2, 3, 4 -

## GUO40-08NO1
designator *  value GUO40-08NO1
ki_keywords: Three-Phase Bridge Rectifier; ki_description: 250V Vrms, 40A If, GUFP(X025B); ki_fp_filters: Diode*Bridge*IXYS*GUFP*; Footprint: Diode_THT:Diode_Bridge_IXYS_GUFP; Supplier: https://ixapps.ixys.com/DataSheet/GUO40-08NO1.pdf
footprint Diode_Bridge_IXYS_GUFP
pins: 1 +, 2, 3, 4, 5 -

## GUO40-12NO1
designator *  value GUO40-12NO1
ki_keywords: Three-Phase Bridge Rectifier; ki_description: 400V Vrms, 40A If, GUFP(X025B); ki_fp_filters: Diode*Bridge*IXYS*GUFP*; Footprint: Diode_THT:Diode_Bridge_IXYS_GUFP; Supplier: https://ixapps.ixys.com/DataSheet/GUO40-12NO1.pdf
footprint Diode_Bridge_IXYS_GUFP
pins: 1 +, 2, 3, 4, 5 -

## GUO40-16NO1
designator *  value GUO40-16NO1
ki_keywords: Three-Phase Bridge Rectifier; ki_description: 500V Vrms, 40A If, GUFP(X025B); ki_fp_filters: Diode*Bridge*IXYS*GUFP*; Footprint: Diode_THT:Diode_Bridge_IXYS_GUFP; Supplier: https://ixapps.ixys.com/DataSheet/GUO40-16NO1.pdf
footprint Diode_Bridge_IXYS_GUFP
pins: 1 +, 2, 3, 4, 5 -

## KBPC1501T
designator *  value KBPC1501T
ki_keywords: diode full; ki_description: Single-Phase Bridge Rectifier, 70V Vrms, 15A If, KBPC-T(FP); ki_fp_filters: Diode*Bridge*KBPC?T*; Supplier: https://www.diodemodule.com/bridge-rectifier/kbpc/kbpc1501t.pdf
pins: 1 +, 2, 3 -, 4

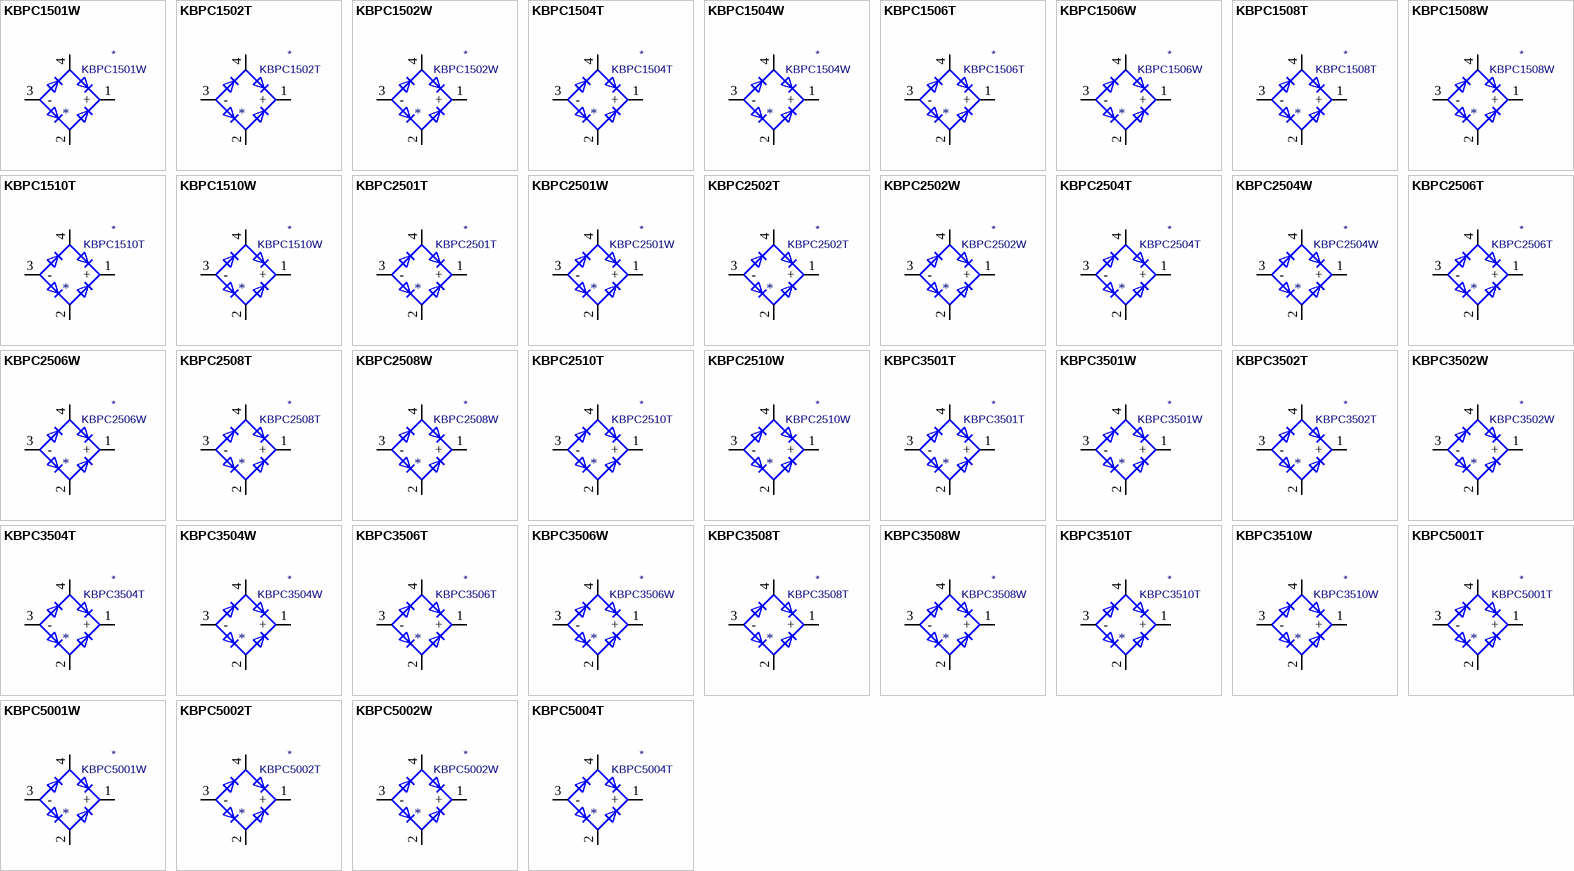
[diagram p2: symbols KBPC1501W to KBPC5004T]

## KBPC1501W
designator *  value KBPC1501W
ki_keywords: diode full; ki_description: Single-Phase Bridge Rectifier, 70V Vrms, 15A If, KBPC-W(WS); ki_fp_filters: Diode*Bridge*KBPC?W*; Footprint: Diode_THT:Diode_Bridge_GeneSiC_KBPC_W; Supplier: https://www.diodemodule.com/bridge-rectifier/kbpc/kbpc1501t.pdf
footprint Diode_Bridge_GeneSiC_KBPC_W
pins: 1 +, 2, 3 -, 4

## KBPC1502T
designator *  value KBPC1502T
ki_keywords: diode full; ki_description: Single-Phase Bridge Rectifier, 140V Vrms, 15A If, KBPC-T(FP); ki_fp_filters: Diode*Bridge*KBPC?T*; Supplier: https://www.diodemodule.com/bridge-rectifier/kbpc/kbpc1502t.pdf
pins: 1 +, 2, 3 -, 4

## KBPC1502W
designator *  value KBPC1502W
ki_keywords: diode full; ki_description: Single-Phase Bridge Rectifier, 140V Vrms, 15A If, KBPC-W(WS); ki_fp_filters: Diode*Bridge*KBPC?W*; Footprint: Diode_THT:Diode_Bridge_GeneSiC_KBPC_W; Supplier: https://www.diodemodule.com/bridge-rectifier/kbpc/kbpc1502t.pdf
footprint Diode_Bridge_GeneSiC_KBPC_W
pins: 1 +, 2, 3 -, 4

## KBPC1504T
designator *  value KBPC1504T
ki_keywords: diode full; ki_description: Single-Phase Bridge Rectifier, 280V Vrms, 15A If, KBPC-T(FP); ki_fp_filters: Diode*Bridge*KBPC?T*; Supplier: https://www.diodemodule.com/bridge-rectifier/kbpc/kbpc1504t.pdf
pins: 1 +, 2, 3 -, 4

## KBPC1504W
designator *  value KBPC1504W
ki_keywords: diode full; ki_description: Single-Phase Bridge Rectifier, 280V Vrms, 15A If, KBPC-W(WS); ki_fp_filters: Diode*Bridge*KBPC?W*; Footprint: Diode_THT:Diode_Bridge_GeneSiC_KBPC_W; Supplier: https://www.diodemodule.com/bridge-rectifier/kbpc/kbpc1504t.pdf
footprint Diode_Bridge_GeneSiC_KBPC_W
pins: 1 +, 2, 3 -, 4

## KBPC1506T
designator *  value KBPC1506T
ki_keywords: diode full; ki_description: Single-Phase Bridge Rectifier, 420V Vrms, 15A If, KBPC-T(FP); ki_fp_filters: Diode*Bridge*KBPC?T*; Supplier: https://www.diodemodule.com/bridge-rectifier/kbpc/kbpc1506t.pdf
pins: 1 +, 2, 3 -, 4

## KBPC1506W
designator *  value KBPC1506W
ki_keywords: diode full; ki_description: Single-Phase Bridge Rectifier, 420V Vrms, 15A If, KBPC-W(WS); ki_fp_filters: Diode*Bridge*KBPC?W*; Footprint: Diode_THT:Diode_Bridge_GeneSiC_KBPC_W; Supplier: https://www.diodemodule.com/bridge-rectifier/kbpc/kbpc1506t.pdf
footprint Diode_Bridge_GeneSiC_KBPC_W
pins: 1 +, 2, 3 -, 4

## KBPC1508T
designator *  value KBPC1508T
ki_keywords: diode full; ki_description: Single-Phase Bridge Rectifier, 560V Vrms, 15A If, KBPC-T(FP); ki_fp_filters: Diode*Bridge*KBPC?T*; Supplier: https://www.diodemodule.com/bridge-rectifier/kbpc/kbpc1508t.pdf
pins: 1 +, 2, 3 -, 4

## KBPC1508W
designator *  value KBPC1508W
ki_keywords: diode full; ki_description: Single-Phase Bridge Rectifier, 560V Vrms, 15A If, KBPC-W(WS); ki_fp_filters: Diode*Bridge*KBPC?W*; Footprint: Diode_THT:Diode_Bridge_GeneSiC_KBPC_W; Supplier: https://www.diodemodule.com/bridge-rectifier/kbpc/kbpc1508t.pdf
footprint Diode_Bridge_GeneSiC_KBPC_W
pins: 1 +, 2, 3 -, 4

## KBPC1510T
designator *  value KBPC1510T
ki_keywords: diode full; ki_description: Single-Phase Bridge Rectifier, 700V Vrms, 15A If, KBPC-T(FP); ki_fp_filters: Diode*Bridge*KBPC?T*; Supplier: https://www.diodemodule.com/bridge-rectifier/kbpc/kbpc1510t.pdf
pins: 1 +, 2, 3 -, 4

## KBPC1510W
designator *  value KBPC1510W
ki_keywords: diode full; ki_description: Single-Phase Bridge Rectifier, 700V Vrms, 15A If, KBPC-W(WS); ki_fp_filters: Diode*Bridge*KBPC?W*; Footprint: Diode_THT:Diode_Bridge_GeneSiC_KBPC_W; Supplier: https://www.diodemodule.com/bridge-rectifier/kbpc/kbpc1510t.pdf
footprint Diode_Bridge_GeneSiC_KBPC_W
pins: 1 +, 2, 3 -, 4

## KBPC2501T
designator *  value KBPC2501T
ki_keywords: diode full; ki_description: Single-Phase Bridge Rectifier, 70V Vrms, 25A If, KBPC-T(FP); ki_fp_filters: Diode*Bridge*KBPC?T*; Supplier: https://www.diodemodule.com/bridge-rectifier/kbpc/kbpc2501t.pdf
pins: 1 +, 2, 3 -, 4

## KBPC2501W
designator *  value KBPC2501W
ki_keywords: diode full; ki_description: Single-Phase Bridge Rectifier, 70V Vrms, 25A If, KBPC-W(WS); ki_fp_filters: Diode*Bridge*KBPC?W*; Footprint: Diode_THT:Diode_Bridge_GeneSiC_KBPC_W; Supplier: https://www.diodemodule.com/bridge-rectifier/kbpc/kbpc2501t.pdf
footprint Diode_Bridge_GeneSiC_KBPC_W
pins: 1 +, 2, 3 -, 4

## KBPC2502T
designator *  value KBPC2502T
ki_keywords: diode full; ki_description: Single-Phase Bridge Rectifier, 140V Vrms, 25A If, KBPC-T(FP); ki_fp_filters: Diode*Bridge*KBPC?T*; Supplier: https://www.diodemodule.com/bridge-rectifier/kbpc/kbpc2502t.pdf
pins: 1 +, 2, 3 -, 4

## KBPC2502W
designator *  value KBPC2502W
ki_keywords: diode full; ki_description: Single-Phase Bridge Rectifier, 140V Vrms, 25A If, KBPC-W(WS); ki_fp_filters: Diode*Bridge*KBPC?W*; Footprint: Diode_THT:Diode_Bridge_GeneSiC_KBPC_W; Supplier: https://www.diodemodule.com/bridge-rectifier/kbpc/kbpc2502t.pdf
footprint Diode_Bridge_GeneSiC_KBPC_W
pins: 1 +, 2, 3 -, 4

## KBPC2504T
designator *  value KBPC2504T
ki_keywords: diode full; ki_description: Single-Phase Bridge Rectifier, 280V Vrms, 25A If, KBPC-T(FP); ki_fp_filters: Diode*Bridge*KBPC?T*; Supplier: https://www.diodemodule.com/bridge-rectifier/kbpc/kbpc2504t.pdf
pins: 1 +, 2, 3 -, 4

## KBPC2504W
designator *  value KBPC2504W
ki_keywords: diode full; ki_description: Single-Phase Bridge Rectifier, 280V Vrms, 25A If, KBPC-W(WS); ki_fp_filters: Diode*Bridge*KBPC?W*; Footprint: Diode_THT:Diode_Bridge_GeneSiC_KBPC_W; Supplier: https://www.diodemodule.com/bridge-rectifier/kbpc/kbpc2504t.pdf
footprint Diode_Bridge_GeneSiC_KBPC_W
pins: 1 +, 2, 3 -, 4

## KBPC2506T
designator *  value KBPC2506T
ki_keywords: diode full; ki_description: Single-Phase Bridge Rectifier, 420V Vrms, 25A If, KBPC-T(FP); ki_fp_filters: Diode*Bridge*KBPC?T*; Supplier: https://www.diodemodule.com/bridge-rectifier/kbpc/kbpc2506t.pdf
pins: 1 +, 2, 3 -, 4

## KBPC2506W
designator *  value KBPC2506W
ki_keywords: diode full; ki_description: Single-Phase Bridge Rectifier, 420V Vrms, 25A If, KBPC-W(WS); ki_fp_filters: Diode*Bridge*KBPC?W*; Footprint: Diode_THT:Diode_Bridge_GeneSiC_KBPC_W; Supplier: https://www.diodemodule.com/bridge-rectifier/kbpc/kbpc2506t.pdf
footprint Diode_Bridge_GeneSiC_KBPC_W
pins: 1 +, 2, 3 -, 4

## KBPC2508T
designator *  value KBPC2508T
ki_keywords: diode full; ki_description: Single-Phase Bridge Rectifier, 560V Vrms, 25A If, KBPC-T(FP); ki_fp_filters: Diode*Bridge*KBPC?T*; Supplier: https://www.diodemodule.com/bridge-rectifier/kbpc/kbpc2508t.pdf
pins: 1 +, 2, 3 -, 4

## KBPC2508W
designator *  value KBPC2508W
ki_keywords: diode full; ki_description: Single-Phase Bridge Rectifier, 560V Vrms, 25A If, KBPC-W(WS); ki_fp_filters: Diode*Bridge*KBPC?W*; Footprint: Diode_THT:Diode_Bridge_GeneSiC_KBPC_W; Supplier: https://www.diodemodule.com/bridge-rectifier/kbpc/kbpc2508t.pdf
footprint Diode_Bridge_GeneSiC_KBPC_W
pins: 1 +, 2, 3 -, 4

## KBPC2510T
designator *  value KBPC2510T
ki_keywords: diode full; ki_description: Single-Phase Bridge Rectifier, 700V Vrms, 25A If, KBPC-T(FP); ki_fp_filters: Diode*Bridge*KBPC?T*; Supplier: https://www.diodemodule.com/bridge-rectifier/kbpc/kbpc2510t.pdf
pins: 1 +, 2, 3 -, 4

## KBPC2510W
designator *  value KBPC2510W
ki_keywords: diode full; ki_description: Single-Phase Bridge Rectifier, 700V Vrms, 25A If, KBPC-W(WS); ki_fp_filters: Diode*Bridge*KBPC?W*; Footprint: Diode_THT:Diode_Bridge_GeneSiC_KBPC_W; Supplier: https://www.diodemodule.com/bridge-rectifier/kbpc/kbpc2510t.pdf
footprint Diode_Bridge_GeneSiC_KBPC_W
pins: 1 +, 2, 3 -, 4

## KBPC3501T
designator *  value KBPC3501T
ki_keywords: diode full; ki_description: Single-Phase Bridge Rectifier, 70V Vrms, 35A If, KBPC-T(FP); ki_fp_filters: Diode*Bridge*KBPC?T*; Supplier: https://www.diodemodule.com/bridge-rectifier/kbpc/kbpc3501t.pdf
pins: 1 +, 2, 3 -, 4

## KBPC3501W
designator *  value KBPC3501W
ki_keywords: diode full; ki_description: Single-Phase Bridge Rectifier, 70V Vrms, 35A If, KBPC-W(WS); ki_fp_filters: Diode*Bridge*KBPC?W*; Footprint: Diode_THT:Diode_Bridge_GeneSiC_KBPC_W; Supplier: https://www.diodemodule.com/bridge-rectifier/kbpc/kbpc3501t.pdf
footprint Diode_Bridge_GeneSiC_KBPC_W
pins: 1 +, 2, 3 -, 4

## KBPC3502T
designator *  value KBPC3502T
ki_keywords: diode full; ki_description: Single-Phase Bridge Rectifier, 140V Vrms, 35A If, KBPC-T(FP); ki_fp_filters: Diode*Bridge*KBPC?T*; Supplier: https://www.diodemodule.com/bridge-rectifier/kbpc/kbpc3502t.pdf
pins: 1 +, 2, 3 -, 4

## KBPC3502W
designator *  value KBPC3502W
ki_keywords: diode full; ki_description: Single-Phase Bridge Rectifier, 140V Vrms, 35A If, KBPC-W(WS); ki_fp_filters: Diode*Bridge*KBPC?W*; Footprint: Diode_THT:Diode_Bridge_GeneSiC_KBPC_W; Supplier: https://www.diodemodule.com/bridge-rectifier/kbpc/kbpc3502t.pdf
footprint Diode_Bridge_GeneSiC_KBPC_W
pins: 1 +, 2, 3 -, 4

## KBPC3504T
designator *  value KBPC3504T
ki_keywords: diode full; ki_description: Single-Phase Bridge Rectifier, 280V Vrms, 35A If, KBPC-T(FP); ki_fp_filters: Diode*Bridge*KBPC?T*; Supplier: https://www.diodemodule.com/bridge-rectifier/kbpc/kbpc3504t.pdf
pins: 1 +, 2, 3 -, 4

## KBPC3504W
designator *  value KBPC3504W
ki_keywords: diode full; ki_description: Single-Phase Bridge Rectifier, 280V Vrms, 35A If, KBPC-W(WS); ki_fp_filters: Diode*Bridge*KBPC?W*; Footprint: Diode_THT:Diode_Bridge_GeneSiC_KBPC_W; Supplier: https://www.diodemodule.com/bridge-rectifier/kbpc/kbpc3504t.pdf
footprint Diode_Bridge_GeneSiC_KBPC_W
pins: 1 +, 2, 3 -, 4

## KBPC3506T
designator *  value KBPC3506T
ki_keywords: diode full; ki_description: Single-Phase Bridge Rectifier, 420V Vrms, 35A If, KBPC-T(FP); ki_fp_filters: Diode*Bridge*KBPC?T*; Supplier: https://www.diodemodule.com/bridge-rectifier/kbpc/kbpc3506t.pdf
pins: 1 +, 2, 3 -, 4

## KBPC3506W
designator *  value KBPC3506W
ki_keywords: diode full; ki_description: Single-Phase Bridge Rectifier, 420V Vrms, 35A If, KBPC-W(WS); ki_fp_filters: Diode*Bridge*KBPC?W*; Footprint: Diode_THT:Diode_Bridge_GeneSiC_KBPC_W; Supplier: https://www.diodemodule.com/bridge-rectifier/kbpc/kbpc3506t.pdf
footprint Diode_Bridge_GeneSiC_KBPC_W
pins: 1 +, 2, 3 -, 4

## KBPC3508T
designator *  value KBPC3508T
ki_keywords: diode full; ki_description: Single-Phase Bridge Rectifier, 560V Vrms, 35A If, KBPC-T(FP); ki_fp_filters: Diode*Bridge*KBPC?T*; Supplier: https://www.diodemodule.com/bridge-rectifier/kbpc/kbpc3508t.pdf
pins: 1 +, 2, 3 -, 4

## KBPC3508W
designator *  value KBPC3508W
ki_keywords: diode full; ki_description: Single-Phase Bridge Rectifier, 560V Vrms, 35A If, KBPC-W(WS); ki_fp_filters: Diode*Bridge*KBPC?W*; Footprint: Diode_THT:Diode_Bridge_GeneSiC_KBPC_W; Supplier: https://www.diodemodule.com/bridge-rectifier/kbpc/kbpc3508t.pdf
footprint Diode_Bridge_GeneSiC_KBPC_W
pins: 1 +, 2, 3 -, 4

## KBPC3510T
designator *  value KBPC3510T
ki_keywords: diode full; ki_description: Single-Phase Bridge Rectifier, 700V Vrms, 35A If, KBPC-T(FP); ki_fp_filters: Diode*Bridge*KBPC?T*; Supplier: https://www.diodemodule.com/bridge-rectifier/kbpc/kbpc3510t.pdf
pins: 1 +, 2, 3 -, 4

## KBPC3510W
designator *  value KBPC3510W
ki_keywords: diode full; ki_description: Single-Phase Bridge Rectifier, 700V Vrms, 35A If, KBPC-W(WS); ki_fp_filters: Diode*Bridge*KBPC?W*; Footprint: Diode_THT:Diode_Bridge_GeneSiC_KBPC_W; Supplier: https://www.diodemodule.com/bridge-rectifier/kbpc/kbpc3510t.pdf
footprint Diode_Bridge_GeneSiC_KBPC_W
pins: 1 +, 2, 3 -, 4

## KBPC5001T
designator *  value KBPC5001T
ki_keywords: diode full; ki_description: Single-Phase Bridge Rectifier, 70V Vrms, 50A If, KBPC-T(FP); ki_fp_filters: Diode*Bridge*KBPC?T*; Supplier: https://www.diodemodule.com/bridge-rectifier/kbpc/kbpc5001t.pdf
pins: 1 +, 2, 3 -, 4

## KBPC5001W
designator *  value KBPC5001W
ki_keywords: diode full; ki_description: Single-Phase Bridge Rectifier, 70V Vrms, 50A If, KBPC-W(WS); ki_fp_filters: Diode*Bridge*KBPC?W*; Footprint: Diode_THT:Diode_Bridge_GeneSiC_KBPC_W; Supplier: https://www.diodemodule.com/bridge-rectifier/kbpc/kbpc5001t.pdf
footprint Diode_Bridge_GeneSiC_KBPC_W
pins: 1 +, 2, 3 -, 4

## KBPC5002T
designator *  value KBPC5002T
ki_keywords: diode full; ki_description: Single-Phase Bridge Rectifier, 140V Vrms, 50A If, KBPC-T(FP); ki_fp_filters: Diode*Bridge*KBPC?T*; Supplier: https://www.diodemodule.com/bridge-rectifier/kbpc/kbpc5002t.pdf
pins: 1 +, 2, 3 -, 4

## KBPC5002W
designator *  value KBPC5002W
ki_keywords: diode full; ki_description: Single-Phase Bridge Rectifier, 140V Vrms, 50A If, KBPC-W(WS); ki_fp_filters: Diode*Bridge*KBPC?W*; Footprint: Diode_THT:Diode_Bridge_GeneSiC_KBPC_W; Supplier: https://www.diodemodule.com/bridge-rectifier/kbpc/kbpc5002t.pdf
footprint Diode_Bridge_GeneSiC_KBPC_W
pins: 1 +, 2, 3 -, 4

## KBPC5004T
designator *  value KBPC5004T
ki_keywords: diode full; ki_description: Single-Phase Bridge Rectifier, 280V Vrms, 50A If, KBPC-T(FP); ki_fp_filters: Diode*Bridge*KBPC?T*; Supplier: https://www.diodemodule.com/bridge-rectifier/kbpc/kbpc5004t.pdf
pins: 1 +, 2, 3 -, 4

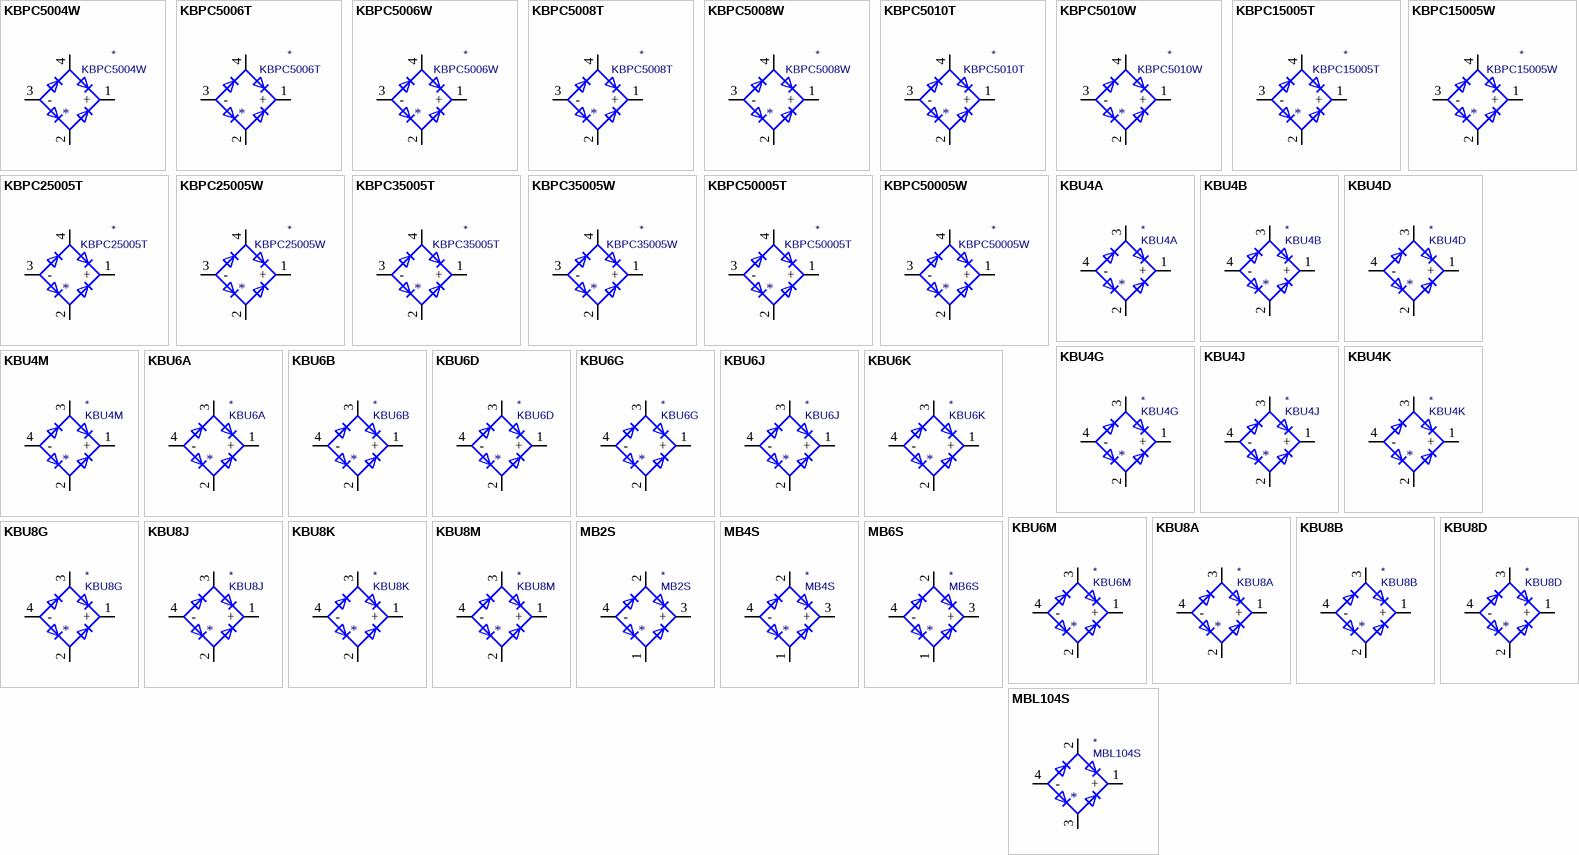
[diagram p3: symbols KBPC5004W to MBL104S]

## KBPC5004W
designator *  value KBPC5004W
ki_keywords: diode full; ki_description: Single-Phase Bridge Rectifier, 280V Vrms, 50A If, KBPC-W(WS); ki_fp_filters: Diode*Bridge*KBPC?W*; Footprint: Diode_THT:Diode_Bridge_GeneSiC_KBPC_W; Supplier: https://www.diodemodule.com/bridge-rectifier/kbpc/kbpc5004t.pdf
footprint Diode_Bridge_GeneSiC_KBPC_W
pins: 1 +, 2, 3 -, 4

## KBPC5006T
designator *  value KBPC5006T
ki_keywords: diode full; ki_description: Single-Phase Bridge Rectifier, 420V Vrms, 50A If, KBPC-T(FP); ki_fp_filters: Diode*Bridge*KBPC?T*; Supplier: https://www.diodemodule.com/bridge-rectifier/kbpc/kbpc5006t.pdf
pins: 1 +, 2, 3 -, 4

## KBPC5006W
designator *  value KBPC5006W
ki_keywords: diode full; ki_description: Single-Phase Bridge Rectifier, 420V Vrms, 50A If, KBPC-W(WS); ki_fp_filters: Diode*Bridge*KBPC?W*; Footprint: Diode_THT:Diode_Bridge_GeneSiC_KBPC_W; Supplier: https://www.diodemodule.com/bridge-rectifier/kbpc/kbpc5006t.pdf
footprint Diode_Bridge_GeneSiC_KBPC_W
pins: 1 +, 2, 3 -, 4

## KBPC5008T
designator *  value KBPC5008T
ki_keywords: diode full; ki_description: Single-Phase Bridge Rectifier, 560V Vrms, 50A If, KBPC-T(FP); ki_fp_filters: Diode*Bridge*KBPC?T*; Supplier: https://www.diodemodule.com/bridge-rectifier/kbpc/kbpc5008t.pdf
pins: 1 +, 2, 3 -, 4

## KBPC5008W
designator *  value KBPC5008W
ki_keywords: diode full; ki_description: Single-Phase Bridge Rectifier, 560V Vrms, 50A If, KBPC-W(WS); ki_fp_filters: Diode*Bridge*KBPC?W*; Footprint: Diode_THT:Diode_Bridge_GeneSiC_KBPC_W; Supplier: https://www.diodemodule.com/bridge-rectifier/kbpc/kbpc5008t.pdf
footprint Diode_Bridge_GeneSiC_KBPC_W
pins: 1 +, 2, 3 -, 4

## KBPC5010T
designator *  value KBPC5010T
ki_keywords: diode full; ki_description: Single-Phase Bridge Rectifier, 700V Vrms, 50A If, KBPC-T(FP); ki_fp_filters: Diode*Bridge*KBPC?T*; Supplier: https://www.diodemodule.com/bridge-rectifier/kbpc/kbpc5010t.pdf
pins: 1 +, 2, 3 -, 4

## KBPC5010W
designator *  value KBPC5010W
ki_keywords: diode full; ki_description: Single-Phase Bridge Rectifier, 700V Vrms, 50A If, KBPC-W(WS); ki_fp_filters: Diode*Bridge*KBPC?W*; Footprint: Diode_THT:Diode_Bridge_GeneSiC_KBPC_W; Supplier: https://www.diodemodule.com/bridge-rectifier/kbpc/kbpc5010t.pdf
footprint Diode_Bridge_GeneSiC_KBPC_W
pins: 1 +, 2, 3 -, 4

## KBPC15005T
designator *  value KBPC15005T
ki_keywords: diode full; ki_description: Single-Phase Bridge Rectifier, 35V Vrms, 15A If, KBPC-T(FP); ki_fp_filters: Diode*Bridge*KBPC?T*; Supplier: https://www.diodemodule.com/bridge-rectifier/kbpc/kbpc15005t.pdf
pins: 1 +, 2, 3 -, 4

## KBPC15005W
designator *  value KBPC15005W
ki_keywords: diode full; ki_description: Single-Phase Bridge Rectifier, 35V Vrms, 15A If, KBPC-W(WS); ki_fp_filters: Diode*Bridge*KBPC?W*; Footprint: Diode_THT:Diode_Bridge_GeneSiC_KBPC_W; Supplier: https://www.diodemodule.com/bridge-rectifier/kbpc/kbpc15005t.pdf
footprint Diode_Bridge_GeneSiC_KBPC_W
pins: 1 +, 2, 3 -, 4

## KBPC25005T
designator *  value KBPC25005T
ki_keywords: diode full; ki_description: Single-Phase Bridge Rectifier, 35V Vrms, 25A If, KBPC-T(FP); ki_fp_filters: Diode*Bridge*KBPC?T*; Supplier: https://www.diodemodule.com/bridge-rectifier/kbpc/kbpc25005t.pdf
pins: 1 +, 2, 3 -, 4

## KBPC25005W
designator *  value KBPC25005W
ki_keywords: diode full; ki_description: Single-Phase Bridge Rectifier, 35V Vrms, 25A If, KBPC-W(WS); ki_fp_filters: Diode*Bridge*KBPC?W*; Footprint: Diode_THT:Diode_Bridge_GeneSiC_KBPC_W; Supplier: https://www.diodemodule.com/bridge-rectifier/kbpc/kbpc25005t.pdf
footprint Diode_Bridge_GeneSiC_KBPC_W
pins: 1 +, 2, 3 -, 4

## KBPC35005T
designator *  value KBPC35005T
ki_keywords: diode full; ki_description: Single-Phase Bridge Rectifier, 35V Vrms, 35A If, KBPC-T(FP); ki_fp_filters: Diode*Bridge*KBPC?T*; Supplier: https://www.diodemodule.com/bridge-rectifier/kbpc/kbpc35005t.pdf
pins: 1 +, 2, 3 -, 4

## KBPC35005W
designator *  value KBPC35005W
ki_keywords: diode full; ki_description: Single-Phase Bridge Rectifier, 35V Vrms, 35A If, KBPC-W(WS); ki_fp_filters: Diode*Bridge*KBPC?W*; Footprint: Diode_THT:Diode_Bridge_GeneSiC_KBPC_W; Supplier: https://www.diodemodule.com/bridge-rectifier/kbpc/kbpc35005t.pdf
footprint Diode_Bridge_GeneSiC_KBPC_W
pins: 1 +, 2, 3 -, 4

## KBPC50005T
designator *  value KBPC50005T
ki_keywords: diode full; ki_description: Single-Phase Bridge Rectifier, 35V Vrms, 50A If, KBPC-T(FP); ki_fp_filters: Diode*Bridge*KBPC?T*; Supplier: https://www.diodemodule.com/bridge-rectifier/kbpc/kbpc50005t.pdf
pins: 1 +, 2, 3 -, 4

## KBPC50005W
designator *  value KBPC50005W
ki_keywords: diode full; ki_description: Single-Phase Bridge Rectifier, 35V Vrms, 50A If, KBPC-W(WS); ki_fp_filters: Diode*Bridge*KBPC?W*; Footprint: Diode_THT:Diode_Bridge_GeneSiC_KBPC_W; Supplier: https://www.diodemodule.com/bridge-rectifier/kbpc/kbpc50005t.pdf
footprint Diode_Bridge_GeneSiC_KBPC_W
pins: 1 +, 2, 3 -, 4

## KBU4A
designator *  value KBU4A
ki_keywords: rectifier acdc; ki_description: Single-Phase Bridge Rectifier, 35V Vrms, 4.0A If, KBU package; ki_fp_filters: Diode*Bridge*Vishay*KBU*; Footprint: Diode_THT:Diode_Bridge_Vishay_KBU; Supplier: http://www.vishay.com/docs/88656/kbu4.pdf
footprint Diode_Bridge_Vishay_KBU
pins: 1 +, 2, 3, 4 -

## KBU4B
designator *  value KBU4B
ki_keywords: rectifier acdc; ki_description: Single-Phase Bridge Rectifier, 70V Vrms, 4.0A If, KBU package; ki_fp_filters: Diode*Bridge*Vishay*KBU*; Footprint: Diode_THT:Diode_Bridge_Vishay_KBU; Supplier: http://www.vishay.com/docs/88656/kbu4.pdf
footprint Diode_Bridge_Vishay_KBU
pins: 1 +, 2, 3, 4 -

## KBU4D
designator *  value KBU4D
ki_keywords: rectifier acdc; ki_description: Single-Phase Bridge Rectifier, 140V Vrms, 4.0A If, KBU package; ki_fp_filters: Diode*Bridge*Vishay*KBU*; Footprint: Diode_THT:Diode_Bridge_Vishay_KBU; Supplier: http://www.vishay.com/docs/88656/kbu4.pdf
footprint Diode_Bridge_Vishay_KBU
pins: 1 +, 2, 3, 4 -